# Altium footprint library Tranzistor.PcbLib: 241 footprints (part 12 of 16)
Each footprint in its own frame and in the unit in brackets; x right, y up, seen from the top. Pads: shape width x height; smd on the part's side, far side on the other; paste and mask are expansions set on the pad; w line width, h text height; cw(c..) or ccw(c..) is an arc to the next point about the centre after c.
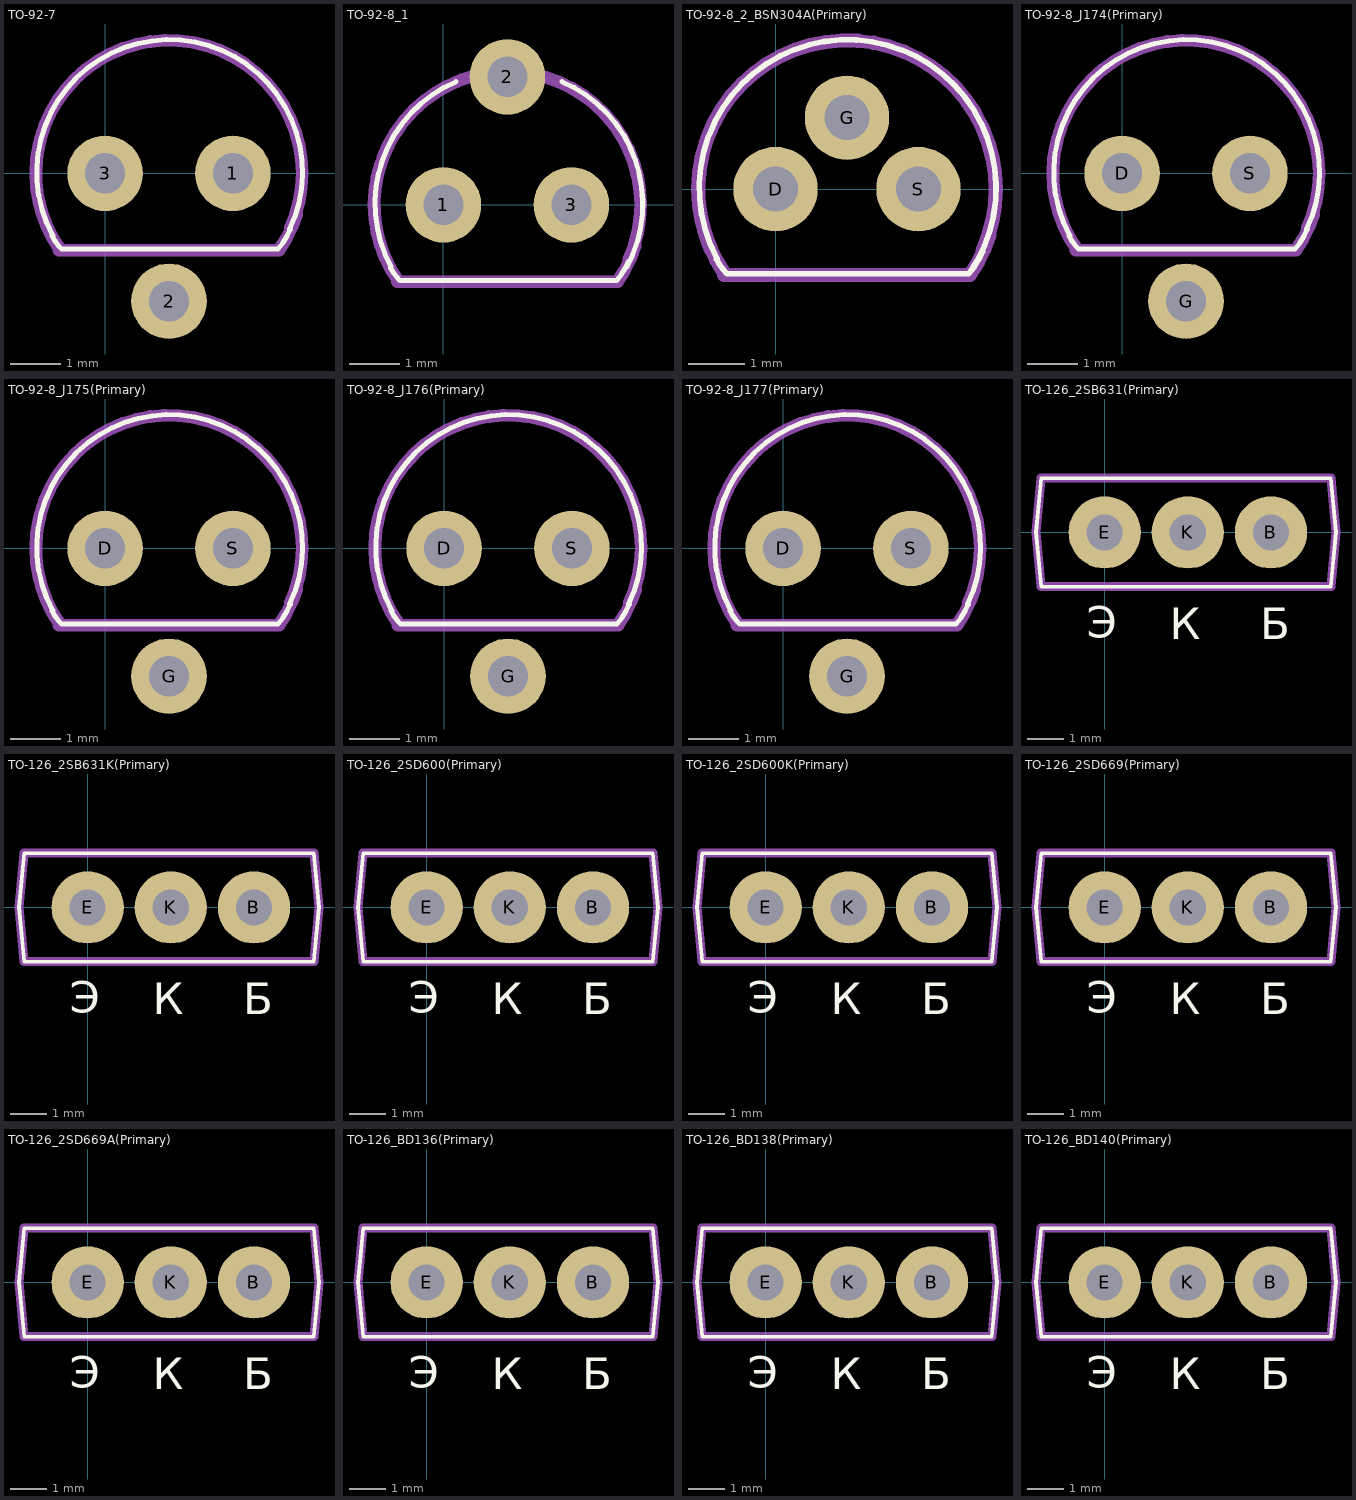
[diagram p11: the footprints below, top view; thin cyan lines are the x and y axes]

## TO-92-7 [mm]
pads (3):
  round 1.5 hole 0.8: 1(2.54,0) 2(1.27,-2.54) 3(0,0)
Top Overlay:
  lines w0.1: -1.051,-1.245 ccw(c-0.235,-0.843) -0.86,-1.504 ; -1.039,-1.237 cw(c1.282,0.017) 3.66,-1.123 ; -0.856,-1.503 0.084,-1.503 ; 0.086,-1.504 3.419,-1.503 ; 3.434,-1.505 ccw(c2.324,-0.536) 3.679,-1.114
Mechanical 1:
  lines w0.025: 1.245,2.667 1.27,2.667
  lines w0.25: -1.243,0.816 ccw(c1.168,0) -1.243,-0.816 ccw(c1.27,0) -0.895,-1.516 ; -1.055,-1.257 cw(c1.27,0) 3.675,-1.096 ; -0.914,-1.524 3.454,-1.524 ccw(c1.27,0) 3.805,-0.819 ; 3.785,-0.812 ccw(c1.27,0) 3.785,0.812
  text "I" at -0.1,0.8 h0.31
  text "Z" at 2.45,0.8 h0.31
  text "S" at 1.1,-1.25 h0.31

## TO-92-8_1 [mm]
pads (3):
  round 1.5 hole 0.8: 1(0,0) 2(1.27,2.54) 3(2.54,0)
Top Overlay:
  lines w0.1: -1.051,-1.245 ccw(c-0.235,-0.843) -0.86,-1.504 ; -1.039,-1.237 cw(c1.282,0.017) 0.251,2.445 ; -0.856,-1.503 0.084,-1.503 ; 0.086,-1.504 3.419,-1.503 ; 2.349,2.445 cw(c1.318,0.017) 3.639,-1.237 ; 3.434,-1.505 ccw(c2.324,-0.536) 3.679,-1.114
Mechanical 1:
  lines w0.025: 1.245,2.667 1.27,2.667
  lines w0.25: -1.243,0.816 ccw(c1.168,0) -1.243,-0.816 ccw(c1.27,0) -0.895,-1.516 ; -1.055,-1.257 cw(c1.27,0) 3.675,-1.096 ; -0.914,-1.524 3.454,-1.524 ccw(c1.27,0) 3.805,-0.819 ; 3.785,-0.812 ccw(c1.27,0) 3.785,0.812
  text "D" at -0.1,0.8 h0.31
  text "G" at 1.15,3.55 h0.31
  text "S" at 2.45,0.8 h0.31

## TO-92-8_2_BSN304A(Primary) [mm]
pads (3):
  round 1.5 hole 0.8: D(0,0) G(1.27,1.27) S(2.54,0)
Top Overlay:
  lines w0.1: -1.051,-1.245 ccw(c-0.235,-0.843) -0.86,-1.504 ; -1.039,-1.237 cw(c1.282,0.017) 3.442,-1.496 ; -0.856,-1.503 0.084,-1.503 ; 0.086,-1.504 3.419,-1.503 ; 3.434,-1.505 ccw(c2.324,-0.536) 3.679,-1.114
Mechanical 1:
  lines w0.025: 1.245,2.667 1.27,2.667
  lines w0.25: -1.243,0.816 ccw(c1.168,0) -1.243,-0.816 ccw(c1.27,0) -0.895,-1.516 ; -1.055,-1.257 cw(c1.27,0) 3.675,-1.096 ; -0.914,-1.524 3.454,-1.524 ccw(c1.27,0) 3.805,-0.819 ; 3.785,-0.812 ccw(c1.27,0) 3.785,0.812
  text "D" at -0.1,0.8 h0.31
  text "G" at 1.15,3.55 h0.31
  text "S" at 2.45,0.8 h0.31

## TO-92-8_J174(Primary) [mm]
pads (3):
  round 1.5 hole 0.8: D(0,0) G(1.27,-2.54) S(2.54,0)
Top Overlay:
  lines w0.1: -1.051,-1.245 ccw(c-0.235,-0.843) -0.86,-1.504 ; -1.039,-1.237 cw(c1.282,0.017) 3.66,-1.123 ; -0.856,-1.503 0.084,-1.503 ; 0.086,-1.504 3.419,-1.503 ; 3.434,-1.505 ccw(c2.324,-0.536) 3.679,-1.114
Mechanical 1:
  lines w0.025: 1.245,2.667 1.27,2.667
  lines w0.25: -1.243,0.816 ccw(c1.168,0) -1.243,-0.816 ccw(c1.27,0) -0.895,-1.516 ; -1.055,-1.257 cw(c1.27,0) 3.675,-1.096 ; -0.914,-1.524 3.454,-1.524 ccw(c1.27,0) 3.805,-0.819 ; 3.785,-0.812 ccw(c1.27,0) 3.785,0.812
  text "D" at -0.1,0.8 h0.31
  text "S" at 2.45,0.8 h0.31
  text "G" at 1.1,-1.25 h0.31

## TO-92-8_J175(Primary) [mm]
pads (3):
  round 1.5 hole 0.8: D(0,0) G(1.27,-2.54) S(2.54,0)
Top Overlay:
  lines w0.1: -1.051,-1.245 ccw(c-0.235,-0.843) -0.86,-1.504 ; -1.039,-1.237 cw(c1.282,0.017) 3.66,-1.123 ; -0.856,-1.503 0.084,-1.503 ; 0.086,-1.504 3.419,-1.503 ; 3.434,-1.505 ccw(c2.324,-0.536) 3.679,-1.114
Mechanical 1:
  lines w0.025: 1.245,2.667 1.27,2.667
  lines w0.25: -1.243,0.816 ccw(c1.168,0) -1.243,-0.816 ccw(c1.27,0) -0.895,-1.516 ; -1.055,-1.257 cw(c1.27,0) 3.675,-1.096 ; -0.914,-1.524 3.454,-1.524 ccw(c1.27,0) 3.805,-0.819 ; 3.785,-0.812 ccw(c1.27,0) 3.785,0.812
  text "D" at -0.1,0.8 h0.31
  text "S" at 2.45,0.8 h0.31
  text "G" at 1.1,-1.25 h0.31

## TO-92-8_J176(Primary) [mm]
pads (3):
  round 1.5 hole 0.8: D(0,0) G(1.27,-2.54) S(2.54,0)
Top Overlay:
  lines w0.1: -1.051,-1.245 ccw(c-0.235,-0.843) -0.86,-1.504 ; -1.039,-1.237 cw(c1.282,0.017) 3.66,-1.123 ; -0.856,-1.503 0.084,-1.503 ; 0.086,-1.504 3.419,-1.503 ; 3.434,-1.505 ccw(c2.324,-0.536) 3.679,-1.114
Mechanical 1:
  lines w0.025: 1.245,2.667 1.27,2.667
  lines w0.25: -1.243,0.816 ccw(c1.168,0) -1.243,-0.816 ccw(c1.27,0) -0.895,-1.516 ; -1.055,-1.257 cw(c1.27,0) 3.675,-1.096 ; -0.914,-1.524 3.454,-1.524 ccw(c1.27,0) 3.805,-0.819 ; 3.785,-0.812 ccw(c1.27,0) 3.785,0.812
  text "D" at -0.1,0.8 h0.31
  text "S" at 2.45,0.8 h0.31
  text "G" at 1.1,-1.25 h0.31

## TO-92-8_J177(Primary) [mm]
pads (3):
  round 1.5 hole 0.8: D(0,0) G(1.27,-2.54) S(2.54,0)
Top Overlay:
  lines w0.1: -1.051,-1.245 ccw(c-0.235,-0.843) -0.86,-1.504 ; -1.039,-1.237 cw(c1.282,0.017) 3.66,-1.123 ; -0.856,-1.503 0.084,-1.503 ; 0.086,-1.504 3.419,-1.503 ; 3.434,-1.505 ccw(c2.324,-0.536) 3.679,-1.114
Mechanical 1:
  lines w0.025: 1.245,2.667 1.27,2.667
  lines w0.25: -1.243,0.816 ccw(c1.168,0) -1.243,-0.816 ccw(c1.27,0) -0.895,-1.516 ; -1.055,-1.257 cw(c1.27,0) 3.675,-1.096 ; -0.914,-1.524 3.454,-1.524 ccw(c1.27,0) 3.805,-0.819 ; 3.785,-0.812 ccw(c1.27,0) 3.785,0.812
  text "D" at -0.1,0.8 h0.31
  text "S" at 2.45,0.8 h0.31
  text "G" at 1.1,-1.25 h0.31

## TO-126_2SB631(Primary) [mm]
pads (3):
  round 2 hole 1: B(4.6,0) E(0,0) K(2.3,0)
Top Overlay:
  lines w0.1: -1.9,0.002 -1.757,1.502 6.257,1.502 6.4,0.002 6.257,-1.498 -1.757,-1.498 -1.9,0.002
  text "К" at 1.8,-3.25 h1.5
  text "Б" at 4.3,-3.25 h1.5
  text "Э" at -0.5,-3.2 h1.5
Mechanical 1:
  lines w0.25: -1.9,0.002 -1.757,-1.498 6.257,-1.498 6.4,0.002 6.257,1.502 -1.757,1.502 -1.9,0.002

## TO-126_2SB631K(Primary) [mm]
pads (3):
  round 2 hole 1: B(4.6,0) E(0,0) K(2.3,0)
Top Overlay:
  lines w0.1: -1.9,0.002 -1.757,1.502 6.257,1.502 6.4,0.002 6.257,-1.498 -1.757,-1.498 -1.9,0.002
  text "К" at 1.8,-3.25 h1.5
  text "Б" at 4.3,-3.25 h1.5
  text "Э" at -0.5,-3.2 h1.5
Mechanical 1:
  lines w0.25: -1.9,0.002 -1.757,-1.498 6.257,-1.498 6.4,0.002 6.257,1.502 -1.757,1.502 -1.9,0.002

## TO-126_2SD600(Primary) [mm]
pads (3):
  round 2 hole 1: B(4.6,0) E(0,0) K(2.3,0)
Top Overlay:
  lines w0.1: -1.9,0.002 -1.757,1.502 6.257,1.502 6.4,0.002 6.257,-1.498 -1.757,-1.498 -1.9,0.002
  text "К" at 1.8,-3.25 h1.5
  text "Б" at 4.3,-3.25 h1.5
  text "Э" at -0.5,-3.2 h1.5
Mechanical 1:
  lines w0.25: -1.9,0.002 -1.757,-1.498 6.257,-1.498 6.4,0.002 6.257,1.502 -1.757,1.502 -1.9,0.002

## TO-126_2SD600K(Primary) [mm]
pads (3):
  round 2 hole 1: B(4.6,0) E(0,0) K(2.3,0)
Top Overlay:
  lines w0.1: -1.9,0.002 -1.757,1.502 6.257,1.502 6.4,0.002 6.257,-1.498 -1.757,-1.498 -1.9,0.002
  text "К" at 1.8,-3.25 h1.5
  text "Б" at 4.3,-3.25 h1.5
  text "Э" at -0.5,-3.2 h1.5
Mechanical 1:
  lines w0.25: -1.9,0.002 -1.757,-1.498 6.257,-1.498 6.4,0.002 6.257,1.502 -1.757,1.502 -1.9,0.002

## TO-126_2SD669(Primary) [mm]
pads (3):
  round 2 hole 1: B(4.6,0) E(0,0) K(2.3,0)
Top Overlay:
  lines w0.1: -1.9,0.002 -1.757,1.502 6.257,1.502 6.4,0.002 6.257,-1.498 -1.757,-1.498 -1.9,0.002
  text "К" at 1.8,-3.25 h1.5
  text "Б" at 4.3,-3.25 h1.5
  text "Э" at -0.5,-3.2 h1.5
Mechanical 1:
  lines w0.25: -1.9,0.002 -1.757,-1.498 6.257,-1.498 6.4,0.002 6.257,1.502 -1.757,1.502 -1.9,0.002

## TO-126_2SD669A(Primary) [mm]
pads (3):
  round 2 hole 1: B(4.6,0) E(0,0) K(2.3,0)
Top Overlay:
  lines w0.1: -1.9,0.002 -1.757,1.502 6.257,1.502 6.4,0.002 6.257,-1.498 -1.757,-1.498 -1.9,0.002
  text "К" at 1.8,-3.25 h1.5
  text "Б" at 4.3,-3.25 h1.5
  text "Э" at -0.5,-3.2 h1.5
Mechanical 1:
  lines w0.25: -1.9,0.002 -1.757,-1.498 6.257,-1.498 6.4,0.002 6.257,1.502 -1.757,1.502 -1.9,0.002

## TO-126_BD136(Primary) [mm]
pads (3):
  round 2 hole 1: B(4.6,0) E(0,0) K(2.3,0)
Top Overlay:
  lines w0.1: -1.9,0.002 -1.757,1.502 6.257,1.502 6.4,0.002 6.257,-1.498 -1.757,-1.498 -1.9,0.002
  text "К" at 1.8,-3.25 h1.5
  text "Б" at 4.3,-3.25 h1.5
  text "Э" at -0.5,-3.2 h1.5
Mechanical 1:
  lines w0.25: -1.9,0.002 -1.757,-1.498 6.257,-1.498 6.4,0.002 6.257,1.502 -1.757,1.502 -1.9,0.002

## TO-126_BD138(Primary) [mm]
pads (3):
  round 2 hole 1: B(4.6,0) E(0,0) K(2.3,0)
Top Overlay:
  lines w0.1: -1.9,0.002 -1.757,1.502 6.257,1.502 6.4,0.002 6.257,-1.498 -1.757,-1.498 -1.9,0.002
  text "К" at 1.8,-3.25 h1.5
  text "Б" at 4.3,-3.25 h1.5
  text "Э" at -0.5,-3.2 h1.5
Mechanical 1:
  lines w0.25: -1.9,0.002 -1.757,-1.498 6.257,-1.498 6.4,0.002 6.257,1.502 -1.757,1.502 -1.9,0.002

## TO-126_BD140(Primary) [mm]
pads (3):
  round 2 hole 1: B(4.6,0) E(0,0) K(2.3,0)
Top Overlay:
  lines w0.1: -1.9,0.002 -1.757,1.502 6.257,1.502 6.4,0.002 6.257,-1.498 -1.757,-1.498 -1.9,0.002
  text "К" at 1.8,-3.25 h1.5
  text "Б" at 4.3,-3.25 h1.5
  text "Э" at -0.5,-3.2 h1.5
Mechanical 1:
  lines w0.25: -1.9,0.002 -1.757,-1.498 6.257,-1.498 6.4,0.002 6.257,1.502 -1.757,1.502 -1.9,0.002